# Altium schematic symbol library Nixie_Controller.SchLib: 9 symbols
Pins are listed as number, name and electrical type; pins without a type are passive.

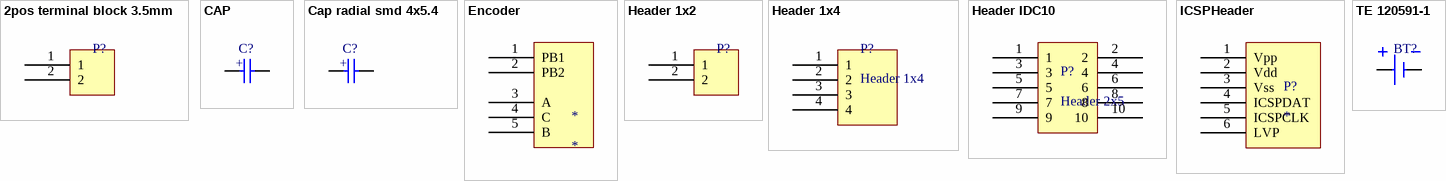
[diagram p0: symbols 2pos terminal block 3.5mm to TE 120591-1]

## 2pos terminal block 3.5mm
designator P?
TE 1776275-2
footprint 2pos terminal block 3.5mm
pins: 1, 2

## CAP
designator C?, comment Polarized capacitor  (value not drawn)
footprint Radial Cap 6.3mm
pins: 1, 2
1 alternate drawing of the same symbol
text: +

## Cap radial smd 4x5.4
designator C?, comment Polarized capacitor  (value not drawn)
footprint Radial cap 4mm
pins: 1, 2
1 alternate drawing of the same symbol
text: +

## Encoder
designator *
footprint BOURNS_PEC12R_ENCODER
pins: 1 PB1, 2 PB2, 3 A, 4 C, 5 B

## Header 1x2
designator P?
TE 640456-2
footprint Header 1x2
pins: 1, 2

## Header 1x4
designator P?
TE 640456-4
footprint HEADER 1X4
pins: 1, 2, 3, 4

## Header IDC10
designator P?, comment Header 2x5
TE 5103310-1
footprint Header 2x5
pins: 1, 2, 3, 4, 5, 6, 7, 8, 9, 10

## ICSPHeader
designator P?
ComponentLink1Description: Documentation; ComponentLink1URL: http://ww1.microchip.com/downloads/en/DeviceDoc/PICkit_3_User_Guide_51795A.pdf#page=15
footprint ICSPHDR (Connector; Header; 6 Position)
pins: 1 Vpp, 2 Vdd, 3 Vss, 4 ICSPDAT, 5 ICSPCLK, 6 LVP

## TE 120591-1
designator BT?
footprint TE-120591-1; pin to pad 2>3
pins: 1 +, 2 -